# Altium schematic symbol library MMBT2222AT-7-F.SchLib: 1 symbol
Pins are listed as number, name and electrical type; pins without a type are passive.

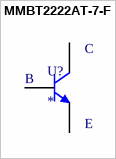
[diagram p0: symbol MMBT2222AT-7-F]

## MMBT2222AT-7-F
designator U?
Undefined or Miscellaneous; Manufacturer_Name: Diodes Inc.; Manufacturer_Part_Number: MMBT2222AT-7-F; Datasheet Link: http://componentsearchengine.com/Datasheets/1/MMBT2222AT-7-F.pdf; Mouser Part Number: 621-MMBT2222AT-F; Mouser Price/Stock: https://www.mouser.co.uk/ProductDetail/Diodes-Incorporated/MMBT2222AT-7-F?qs=ywgb%252BeEUBL%252BIRYly9BViVg%3D%3D; Arrow Part Number: MMBT2222AT-7-F; Arrow Price/Stock: https://www.arrow.com/en/products/mmbt2222at-7-f/diodes-incorporated?region=nac
footprint MMBT2222AT-7-F
pins: 1 B, 2 E, 3 C